# Altium schematic symbol library Clock OSC.SchLib: 1 symbol
Pins are listed as number, name and electrical type; pins without a type are passive.

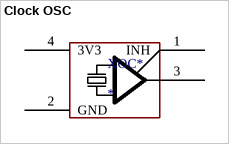
[diagram p0: symbol Clock OSC]

## Clock OSC
designator XOC*
Clock OSC; Reference Part No.: Citizen CSX750FJC-50.000M-UT (50Mhz); Reference Part No.: Crystek C3392-50.000 (50Mhz)
footprint CSX750F (Citizen CSX750F)
pins: 1 INH, 2 GND, 3 OUT, 4 3V3